# Altium footprint library WANGYU92100PcbLib.PcbLib: 392 footprints (part 8 of 25)
Each footprint in its own frame and in the unit in brackets; x right, y up, seen from the top. Pads: shape width x height; smd on the part's side, far side on the other; paste and mask are expansions set on the pad; w line width, h text height; cw(c..) or ccw(c..) is an arc to the next point about the centre after c.
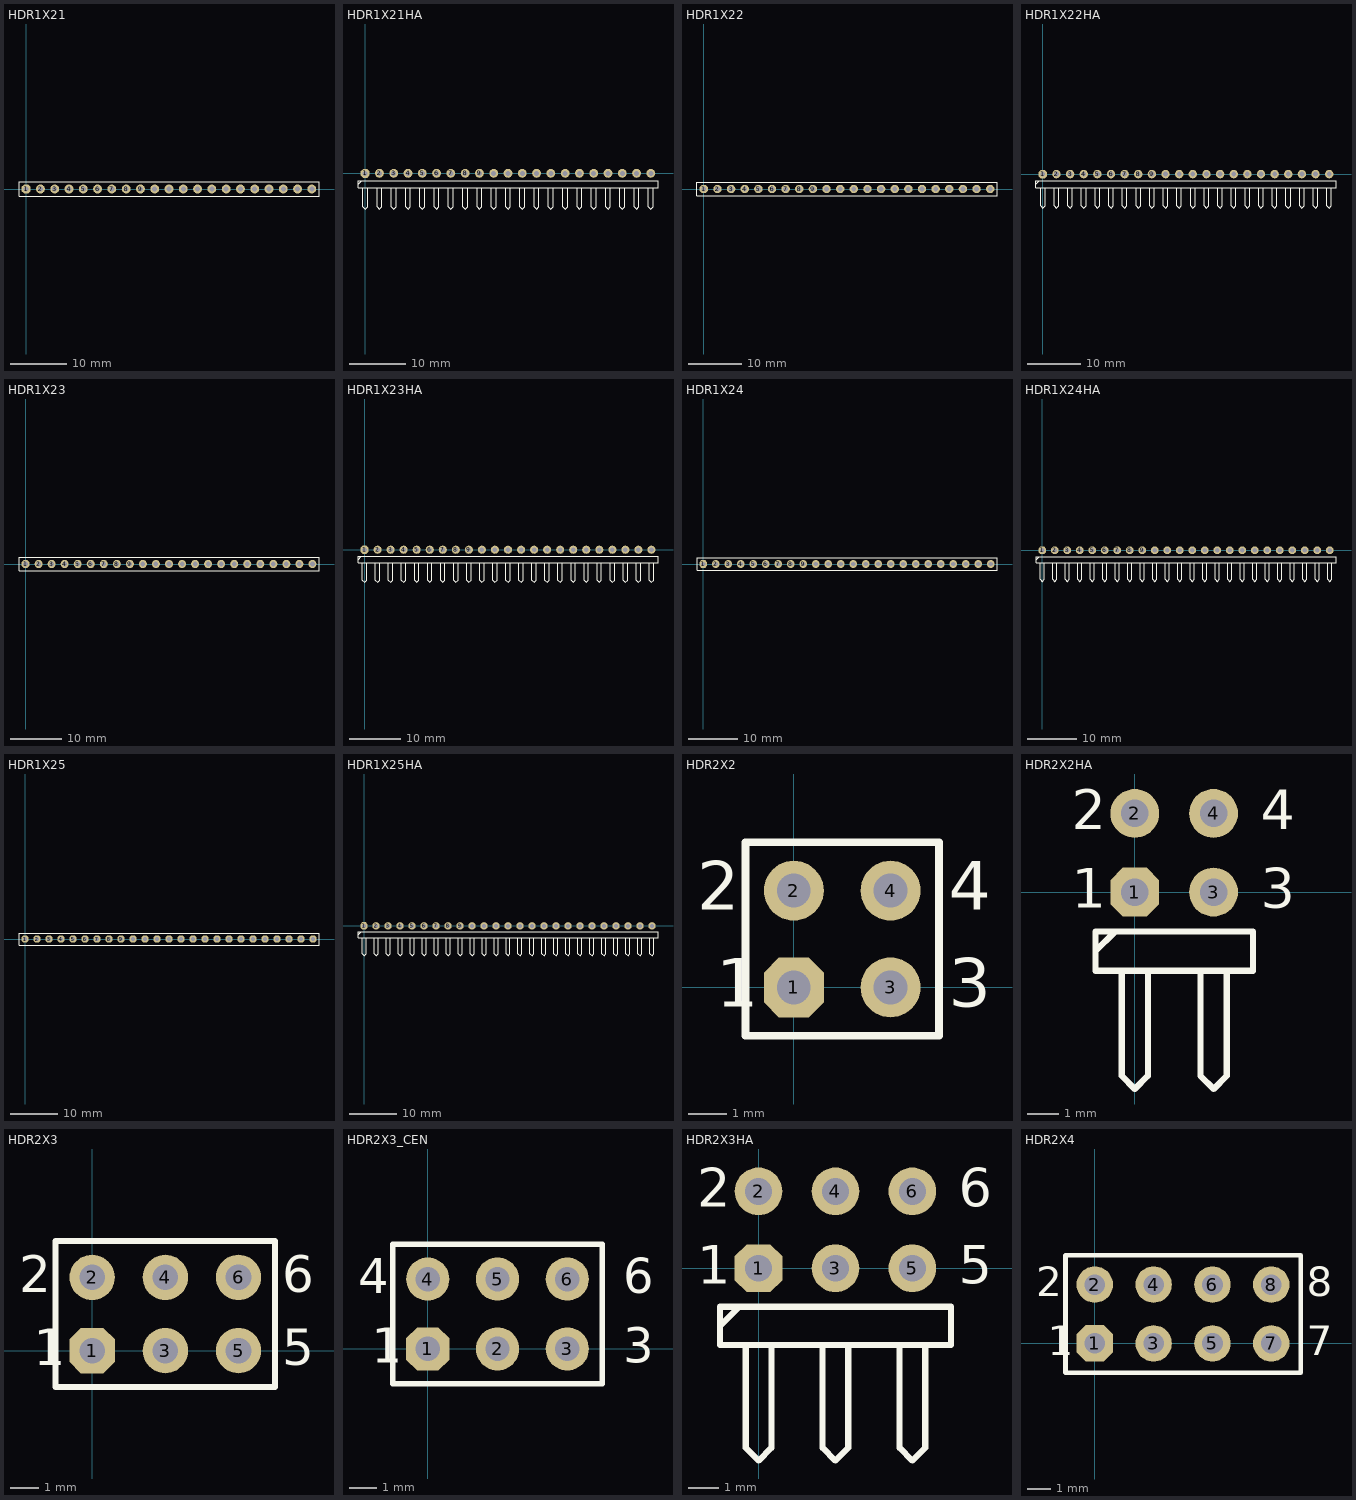
[diagram p7: the footprints below, top view; thin cyan lines are the x and y axes]

## HDR1X21 [mil]
pads (21):
  oct 62x62 hole 35: 1(0,0)
  round 62 hole 35: 2(100,0) 3(200,0) 4(300,0) 5(400,0) 6(500,0) 7(600,0) 8(700,0) 9(800,0) 10(900,0) 11(1000,0) 12(1100,0) 13(1200,0) 14(1300,0) 15(1400,0) 16(1500,0) 17(1600,0) 18(1700,0) 19(1800,0) 20(1900,0) 21(2000,0)
Top Overlay:
  lines w8: -50,-50 -50,50 25,50 2050,50 2050,-50 -50,-50

## HDR1X21HA [mil]
pads (21):
  oct 62x62 hole 35: 1(0,0)
  round 62 hole 35: 2(100,0) 3(200,0) 4(300,0) 5(400,0) 6(500,0) 7(600,0) 8(700,0) 9(800,0) 10(900,0) 11(1000,0) 12(1100,0) 13(1200,0) 14(1300,0) 15(1400,0) 16(1500,0) 17(1600,0) 18(1700,0) 19(1800,0) 20(1900,0) 21(2000,0)
Top Overlay:
  lines w8: -50,-75 -25,-50 ; -16.67,-100 -16.67,-233.33 0,-250 16.67,-233.33 16.67,-100 ; 83.33,-100 83.33,-233.33 100,-250 116.67,-233.33 116.67,-100 ; 183.33,-100 183.33,-233.33 200,-250 216.67,-233.33 216.67,-100 ; 283.33,-100 283.33,-233.33 300,-250 316.67,-233.33 316.67,-100 ; 383.33,-100 383.33,-233.33 400,-250 416.67,-233.33 416.67,-100 ; 483.33,-100 483.33,-233.33 500,-250 516.67,-233.33 516.67,-100 ; 583.33,-100 583.33,-233.33 600,-250 616.67,-233.33 616.67,-100 ; 683.33,-100 683.33,-233.33 700,-250 716.67,-233.33 716.67,-100 ; 783.33,-100 783.33,-233.33 800,-250 816.67,-233.33 816.67,-100 ; 883.33,-100 883.33,-233.33 900,-250 916.67,-233.33 916.67,-100 ; 983.33,-100 983.33,-233.33 1000,-250 1016.67,-233.33 1016.67,-100 ; 1083.33,-100 1083.33,-233.33 1100,-250 1116.67,-233.33 1116.67,-100 ; 1183.33,-100 1183.33,-233.33 1200,-250 1216.67,-233.33 1216.67,-100 ; 1283.33,-100 1283.33,-233.33 1300,-250 1316.67,-233.33 1316.67,-100 ; 1383.33,-100 1383.33,-233.33 1400,-250 1416.67,-233.33 1416.67,-100 ; 1483.33,-100 1483.33,-233.33 1500,-250 1516.67,-233.33 1516.67,-100 ; 1583.33,-100 1583.33,-233.33 1600,-250 1616.67,-233.33 1616.67,-100 ; 1683.33,-100 1683.33,-233.33 1700,-250 1716.67,-233.33 1716.67,-100 ; 1783.33,-100 1783.33,-233.33 1800,-250 1816.67,-233.33 1816.67,-100 ; 1883.33,-100 1883.33,-233.33 1900,-250 1916.67,-233.33 1916.67,-100 ; 1983.33,-100 1983.33,-233.33 2000,-250 2016.67,-233.33 2016.67,-100 ; -50,-100 -50,-50 25,-50 2050,-50 2050,-100 -50,-100

## HDR1X22 [mil]
pads (22):
  oct 62x62 hole 35: 1(0,0)
  round 62 hole 35: 2(100,0) 3(200,0) 4(300,0) 5(400,0) 6(500,0) 7(600,0) 8(700,0) 9(800,0) 10(900,0) 11(1000,0) 12(1100,0) 13(1200,0) 14(1300,0) 15(1400,0) 16(1500,0) 17(1600,0) 18(1700,0) 19(1800,0) 20(1900,0) 21(2000,0) 22(2100,0)
Top Overlay:
  lines w8: -50,-50 2150,-50 2150,50 25,50 -50,50 -50,-50

## HDR1X22HA [mil]
pads (22):
  oct 62x62 hole 35: 1(0,0)
  round 62 hole 35: 2(100,0) 3(200,0) 4(300,0) 5(400,0) 6(500,0) 7(600,0) 8(700,0) 9(800,0) 10(900,0) 11(1000,0) 12(1100,0) 13(1200,0) 14(1300,0) 15(1400,0) 16(1500,0) 17(1600,0) 18(1700,0) 19(1800,0) 20(1900,0) 21(2000,0) 22(2100,0)
Top Overlay:
  lines w8: -50,-75 -25,-50 ; -16.67,-100 -16.67,-233.33 0,-250 16.67,-233.33 16.67,-100 ; 83.33,-100 83.33,-233.33 100,-250 116.67,-233.33 116.67,-100 ; 183.33,-100 183.33,-233.33 200,-250 216.67,-233.33 216.67,-100 ; 283.33,-100 283.33,-233.33 300,-250 316.67,-233.33 316.67,-100 ; 383.33,-100 383.33,-233.33 400,-250 416.67,-233.33 416.67,-100 ; 483.33,-100 483.33,-233.33 500,-250 516.67,-233.33 516.67,-100 ; 583.33,-100 583.33,-233.33 600,-250 616.67,-233.33 616.67,-100 ; 683.33,-100 683.33,-233.33 700,-250 716.67,-233.33 716.67,-100 ; 783.33,-100 783.33,-233.33 800,-250 816.67,-233.33 816.67,-100 ; 883.33,-100 883.33,-233.33 900,-250 916.67,-233.33 916.67,-100 ; 983.33,-100 983.33,-233.33 1000,-250 1016.67,-233.33 1016.67,-100 ; 1083.33,-100 1083.33,-233.33 1100,-250 1116.67,-233.33 1116.67,-100 ; 1183.33,-100 1183.33,-233.33 1200,-250 1216.67,-233.33 1216.67,-100 ; 1283.33,-100 1283.33,-233.33 1300,-250 1316.67,-233.33 1316.67,-100 ; 1383.33,-100 1383.33,-233.33 1400,-250 1416.67,-233.33 1416.67,-100 ; 1483.33,-100 1483.33,-233.33 1500,-250 1516.67,-233.33 1516.67,-100 ; 1583.33,-100 1583.33,-233.33 1600,-250 1616.67,-233.33 1616.67,-100 ; 1683.33,-100 1683.33,-233.33 1700,-250 1716.67,-233.33 1716.67,-100 ; 1783.33,-100 1783.33,-233.33 1800,-250 1816.67,-233.33 1816.67,-100 ; 1883.33,-100 1883.33,-233.33 1900,-250 1916.67,-233.33 1916.67,-100 ; 1983.33,-100 1983.33,-233.33 2000,-250 2016.67,-233.33 2016.67,-100 ; 2083.33,-100 2083.33,-233.33 2100,-250 2116.67,-233.33 2116.67,-100 ; -50,-100 -50,-50 25,-50 2150,-50 2150,-100 -50,-100

## HDR1X23 [mil]
pads (23):
  oct 62x62 hole 35: 1(0,0)
  round 62 hole 35: 2(100,0) 3(200,0) 4(300,0) 5(400,0) 6(500,0) 7(600,0) 8(700,0) 9(800,0) 10(900,0) 11(1000,0) 12(1100,0) 13(1200,0) 14(1300,0) 15(1400,0) 16(1500,0) 17(1600,0) 18(1700,0) 19(1800,0) 20(1900,0) 21(2000,0) 22(2100,0) 23(2200,0)
Top Overlay:
  lines w8: -50,-50 2250,-50 2250,50 25,50 -50,50 -50,-50

## HDR1X23HA [mil]
pads (23):
  oct 62x62 hole 35: 1(0,0)
  round 62 hole 35: 2(100,0) 3(200,0) 4(300,0) 5(400,0) 6(500,0) 7(600,0) 8(700,0) 9(800,0) 10(900,0) 11(1000,0) 12(1100,0) 13(1200,0) 14(1300,0) 15(1400,0) 16(1500,0) 17(1600,0) 18(1700,0) 19(1800,0) 20(1900,0) 21(2000,0) 22(2100,0) 23(2200,0)
Top Overlay:
  lines w8: -50,-75 -25,-50 ; -16.67,-100 -16.67,-233.33 0,-250 16.67,-233.33 16.67,-100 ; 83.33,-100 83.33,-233.33 100,-250 116.67,-233.33 116.67,-100 ; 183.33,-100 183.33,-233.33 200,-250 216.67,-233.33 216.67,-100 ; 283.33,-100 283.33,-233.33 300,-250 316.67,-233.33 316.67,-100 ; 383.33,-100 383.33,-233.33 400,-250 416.67,-233.33 416.67,-100 ; 483.33,-100 483.33,-233.33 500,-250 516.67,-233.33 516.67,-100 ; 583.33,-100 583.33,-233.33 600,-250 616.67,-233.33 616.67,-100 ; 683.33,-100 683.33,-233.33 700,-250 716.67,-233.33 716.67,-100 ; 783.33,-100 783.33,-233.33 800,-250 816.67,-233.33 816.67,-100 ; 883.33,-100 883.33,-233.33 900,-250 916.67,-233.33 916.67,-100 ; 983.33,-100 983.33,-233.33 1000,-250 1016.67,-233.33 1016.67,-100 ; 1083.33,-100 1083.33,-233.33 1100,-250 1116.67,-233.33 1116.67,-100 ; 1183.33,-100 1183.33,-233.33 1200,-250 1216.67,-233.33 1216.67,-100 ; 1283.33,-100 1283.33,-233.33 1300,-250 1316.67,-233.33 1316.67,-100 ; 1383.33,-100 1383.33,-233.33 1400,-250 1416.67,-233.33 1416.67,-100 ; 1483.33,-100 1483.33,-233.33 1500,-250 1516.67,-233.33 1516.67,-100 ; 1583.33,-100 1583.33,-233.33 1600,-250 1616.67,-233.33 1616.67,-100 ; 1683.33,-100 1683.33,-233.33 1700,-250 1716.67,-233.33 1716.67,-100 ; 1783.33,-100 1783.33,-233.33 1800,-250 1816.67,-233.33 1816.67,-100 ; 1883.33,-100 1883.33,-233.33 1900,-250 1916.67,-233.33 1916.67,-100 ; 1983.33,-100 1983.33,-233.33 2000,-250 2016.67,-233.33 2016.67,-100 ; 2083.33,-100 2083.33,-233.33 2100,-250 2116.67,-233.33 2116.67,-100 ; 2183.33,-100 2183.33,-233.33 2200,-250 2216.67,-233.33 2216.67,-100 ; -50,-100 2250,-100 2250,-50 25,-50 -50,-50 -50,-100

## HDR1X24 [mil]
pads (24):
  oct 62x62 hole 35: 1(0,0)
  round 62 hole 35: 2(100,0) 3(200,0) 4(300,0) 5(400,0) 6(500,0) 7(600,0) 8(700,0) 9(800,0) 10(900,0) 11(1000,0) 12(1100,0) 13(1200,0) 14(1300,0) 15(1400,0) 16(1500,0) 17(1600,0) 18(1700,0) 19(1800,0) 20(1900,0) 21(2000,0) 22(2100,0) 23(2200,0) 24(2300,0)
Top Overlay:
  lines w8: -50,-50 2350,-50 2350,50 25,50 -50,50 -50,-50

## HDR1X24HA [mil]
pads (24):
  oct 62x62 hole 35: 1(0,0)
  round 62 hole 35: 2(100,0) 3(200,0) 4(300,0) 5(400,0) 6(500,0) 7(600,0) 8(700,0) 9(800,0) 10(900,0) 11(1000,0) 12(1100,0) 13(1200,0) 14(1300,0) 15(1400,0) 16(1500,0) 17(1600,0) 18(1700,0) 19(1800,0) 20(1900,0) 21(2000,0) 22(2100,0) 23(2200,0) 24(2300,0)
Top Overlay:
  lines w8: -50,-75 -25,-50 ; -16.67,-100 -16.67,-233.33 0,-250 16.67,-233.33 16.67,-100 ; 83.33,-100 83.33,-233.33 100,-250 116.67,-233.33 116.67,-100 ; 183.33,-100 183.33,-233.33 200,-250 216.67,-233.33 216.67,-100 ; 283.33,-100 283.33,-233.33 300,-250 316.67,-233.33 316.67,-100 ; 383.33,-100 383.33,-233.33 400,-250 416.67,-233.33 416.67,-100 ; 483.33,-100 483.33,-233.33 500,-250 516.67,-233.33 516.67,-100 ; 583.33,-100 583.33,-233.33 600,-250 616.67,-233.33 616.67,-100 ; 683.33,-100 683.33,-233.33 700,-250 716.67,-233.33 716.67,-100 ; 783.33,-100 783.33,-233.33 800,-250 816.67,-233.33 816.67,-100 ; 883.33,-100 883.33,-233.33 900,-250 916.67,-233.33 916.67,-100 ; 983.33,-100 983.33,-233.33 1000,-250 1016.67,-233.33 1016.67,-100 ; 1083.33,-100 1083.33,-233.33 1100,-250 1116.67,-233.33 1116.67,-100 ; 1183.33,-100 1183.33,-233.33 1200,-250 1216.67,-233.33 1216.67,-100 ; 1283.33,-100 1283.33,-233.33 1300,-250 1316.67,-233.33 1316.67,-100 ; 1383.33,-100 1383.33,-233.33 1400,-250 1416.67,-233.33 1416.67,-100 ; 1483.33,-100 1483.33,-233.33 1500,-250 1516.67,-233.33 1516.67,-100 ; 1583.33,-100 1583.33,-233.33 1600,-250 1616.67,-233.33 1616.67,-100 ; 1683.33,-100 1683.33,-233.33 1700,-250 1716.67,-233.33 1716.67,-100 ; 1783.33,-100 1783.33,-233.33 1800,-250 1816.67,-233.33 1816.67,-100 ; 1883.33,-100 1883.33,-233.33 1900,-250 1916.67,-233.33 1916.67,-100 ; 1983.33,-100 1983.33,-233.33 2000,-250 2016.67,-233.33 2016.67,-100 ; 2083.33,-100 2083.33,-233.33 2100,-250 2116.67,-233.33 2116.67,-100 ; 2183.33,-100 2183.33,-233.33 2200,-250 2216.67,-233.33 2216.67,-100 ; 2283.33,-100 2283.33,-233.33 2300,-250 2316.67,-233.33 2316.67,-100 ; -50,-100 -50,-50 25,-50 2350,-50 2350,-100 -50,-100

## HDR1X25 [mil]
pads (25):
  oct 62x62 hole 35: 1(0,0)
  round 62 hole 35: 2(100,0) 3(200,0) 4(300,0) 5(400,0) 6(500,0) 7(600,0) 8(700,0) 9(800,0) 10(900,0) 11(1000,0) 12(1100,0) 13(1200,0) 14(1300,0) 15(1400,0) 16(1500,0) 17(1600,0) 18(1700,0) 19(1800,0) 20(1900,0) 21(2000,0) 22(2100,0) 23(2200,0) 24(2300,0) 25(2400,0)
Top Overlay:
  lines w8: -50,-50 -50,50 25,50 2450,50 2450,-50 -50,-50

## HDR1X25HA [mil]
pads (25):
  oct 62x62 hole 35: 1(0,0)
  round 62 hole 35: 2(100,0) 3(200,0) 4(300,0) 5(400,0) 6(500,0) 7(600,0) 8(700,0) 9(800,0) 10(900,0) 11(1000,0) 12(1100,0) 13(1200,0) 14(1300,0) 15(1400,0) 16(1500,0) 17(1600,0) 18(1700,0) 19(1800,0) 20(1900,0) 21(2000,0) 22(2100,0) 23(2200,0) 24(2300,0) 25(2400,0)
Top Overlay:
  lines w8: -50,-75 -25,-50 ; -16.67,-100 -16.67,-233.33 0,-250 16.67,-233.33 16.67,-100 ; 83.33,-100 83.33,-233.33 100,-250 116.67,-233.33 116.67,-100 ; 183.33,-100 183.33,-233.33 200,-250 216.67,-233.33 216.67,-100 ; 283.33,-100 283.33,-233.33 300,-250 316.67,-233.33 316.67,-100 ; 383.33,-100 383.33,-233.33 400,-250 416.67,-233.33 416.67,-100 ; 483.33,-100 483.33,-233.33 500,-250 516.67,-233.33 516.67,-100 ; 583.33,-100 583.33,-233.33 600,-250 616.67,-233.33 616.67,-100 ; 683.33,-100 683.33,-233.33 700,-250 716.67,-233.33 716.67,-100 ; 783.33,-100 783.33,-233.33 800,-250 816.67,-233.33 816.67,-100 ; 883.33,-100 883.33,-233.33 900,-250 916.67,-233.33 916.67,-100 ; 983.33,-100 983.33,-233.33 1000,-250 1016.67,-233.33 1016.67,-100 ; 1083.33,-100 1083.33,-233.33 1100,-250 1116.67,-233.33 1116.67,-100 ; 1183.33,-100 1183.33,-233.33 1200,-250 1216.67,-233.33 1216.67,-100 ; 1283.33,-100 1283.33,-233.33 1300,-250 1316.67,-233.33 1316.67,-100 ; 1383.33,-100 1383.33,-233.33 1400,-250 1416.67,-233.33 1416.67,-100 ; 1483.33,-100 1483.33,-233.33 1500,-250 1516.67,-233.33 1516.67,-100 ; 1583.33,-100 1583.33,-233.33 1600,-250 1616.67,-233.33 1616.67,-100 ; 1683.33,-100 1683.33,-233.33 1700,-250 1716.67,-233.33 1716.67,-100 ; 1783.33,-100 1783.33,-233.33 1800,-250 1816.67,-233.33 1816.67,-100 ; 1883.33,-100 1883.33,-233.33 1900,-250 1916.67,-233.33 1916.67,-100 ; 1983.33,-100 1983.33,-233.33 2000,-250 2016.67,-233.33 2016.67,-100 ; 2083.33,-100 2083.33,-233.33 2100,-250 2116.67,-233.33 2116.67,-100 ; 2183.33,-100 2183.33,-233.33 2200,-250 2216.67,-233.33 2216.67,-100 ; 2283.33,-100 2283.33,-233.33 2300,-250 2316.67,-233.33 2316.67,-100 ; 2383.33,-100 2383.33,-233.33 2400,-250 2416.67,-233.33 2416.67,-100 ; -50,-100 -50,-50 25,-50 2450,-50 2450,-100 -50,-100

## HDR2X2 [mil]
pads (4):
  oct 62x62 hole 35: 1(0,0)
  round 62 hole 35: 2(0,100) 3(100,0) 4(100,100)
Top Overlay:
  lines w8: -50,-50 150,-50 150,150 -50,150 -50,-50
  text "3" at 160,-20 h50
  text "4" at 160,80 h50
  text "2" at -100,80 h50
  text "1" at -80,-20 h50

## HDR2X2HA [mil]
pads (4):
  oct 62x62 hole 35: 1(0,0)
  round 62 hole 35: 2(0,100) 3(100,0) 4(100,100)
Top Overlay:
  lines w8: -50,-75 -25,-50 ; -16.67,-100 -16.67,-233.33 0,-250 16.67,-233.33 16.67,-100 ; 83.33,-100 83.33,-233.33 100,-250 116.67,-233.33 116.67,-100 ; -50,-100 150,-100 150,-50 -50,-50 -50,-100
  text "3" at 160,-20 h50
  text "4" at 160,80 h50
  text "2" at -80,80 h50
  text "1" at -80,-20 h50

## HDR2X3 [mil]
pads (6):
  oct 62x62 hole 35: 1(0,0)
  round 62 hole 35: 2(0,100) 3(100,0) 4(100,100) 5(200,0) 6(200,100)
Top Overlay:
  lines w8: 58.33,-50 250,-50 ; 250,-50 250,150 -50,150 -50,-50 250,-50
  text "6" at 260,80 h50
  text "5" at 260,-20 h50
  text "2" at -100,80 h50
  text "1" at -80,-20 h50

## HDR2X3_CEN [mil]
pads (6):
  oct 62x62 hole 35: 1(0,0)
  round 62 hole 35: 2(100,0) 3(200,0) 4(0,100) 5(100,100) 6(200,100)
Top Overlay:
  lines w8: -50,-50 -50,150 250,150 250,-50 -50,-50
  text "4" at -100,80 h50
  text "1" at -80,-20 h50
  text "3" at 280,-20 h50
  text "6" at 280,80 h50

## HDR2X3HA [mil]
pads (6):
  oct 62x62 hole 35: 1(0,0)
  round 62 hole 35: 2(0,100) 3(100,0) 4(100,100) 5(200,0) 6(200,100)
Top Overlay:
  lines w8: -50,-75 -25,-50 ; -16.67,-100 -16.67,-233.33 0,-250 16.67,-233.33 16.67,-100 ; 83.33,-100 83.33,-233.33 100,-250 116.67,-233.33 116.67,-100 ; 183.33,-100 183.33,-233.33 200,-250 216.67,-233.33 216.67,-100 ; -50,-100 250,-100 250,-50 -50,-50 -50,-100
  text "2" at -80,80 h50
  text "1" at -80,-20 h50
  text "5" at 260,-20 h50
  text "6" at 260,80 h50

## HDR2X4 [mil]
pads (8):
  oct 62x62 hole 35: 1(0,0)
  round 62 hole 35: 2(0,100) 3(100,0) 4(100,100) 5(200,0) 6(200,100) 7(300,0) 8(300,100)
Top Overlay:
  lines w8: -50,-50 -50,150 350,150 350,-50 -50,-50
  text "8" at 360,80 h50
  text "7" at 360,-20 h50
  text "1" at -80,-20 h50
  text "2" at -100,80 h50